# Altium schematic symbol library Diodes.SchLib: 2 symbols
Pins are listed as number, name and electrical type; pins without a type are passive.

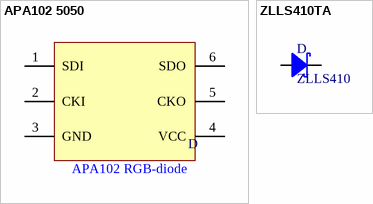
[diagram p0: symbols APA102 5050 to ZLLS410TA]

## APA102 5050
designator D
APA 102 5050 RGB
footprint APA102 5050
pins: 1 SDI, 2 CKI, 3 GND, 4 VCC, 5 CKO, 6 SDO
text: APA102 RGB-diode

## ZLLS410TA
designator D, comment ZLLS410
Schottky diode, small signal, 580mV
footprint ZLLS410
pins: 1, 2